# EAGLE library part SWD-HEADER (library ezlpc)
PIN HEADER
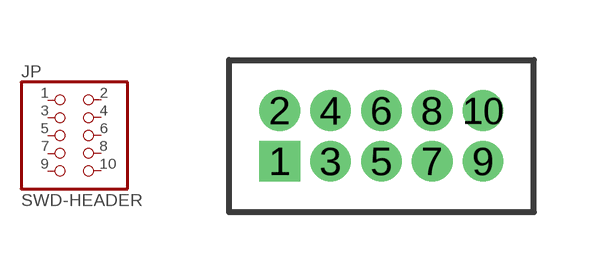
[diagram p1: symbol with the pads of SWD-HEADER; footprint SWD-HEADER]

Designator prefix JP

## SWD-HEADER  [SWD-HEADER]
1  1  pas
2  2  pas
3  3  pas
4  4  pas
5  5  pas
6  6  pas
7  7  pas
8  8  pas
9  9  pas
10  10  pas

## Footprint SWD-HEADER (pad centres in mm)
PIN HEADER
drill 0.508 square: 1 0,0
drill 0.508: 2 0,1.27; 3 1.27,0; 4 1.27,1.27; 5 2.54,0; 6 2.54,1.27; 7 3.81,0; 8 3.81,1.27; 9 5.08,0; 10 5.08,1.27